# EAGLE library part MC145406D (library NXP_By_element14_Batch_1)
EIA-232-D/V.28 driver/receiver
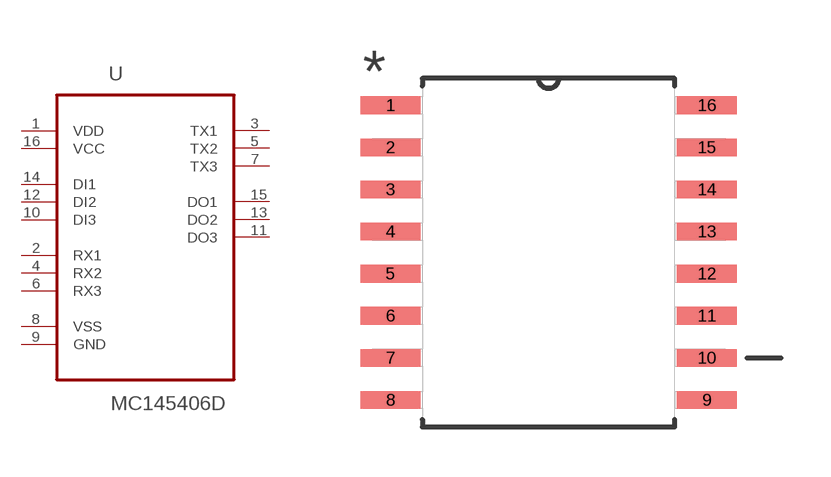
[diagram p376: symbol with the pads of SOIC127P1032X265-16N; footprint SOIC127P1032X265-16N]

Designator prefix U

## MC145406D (MPN: MC145406D; OC_FARNELL: 1211743; OC_NEWARK: -; PACKAGE: SOIC-16; SUPPLIER: NXP)  [SOIC127P1032X265-16N]
1  VDD  pwr
2  RX1  in
3  TX1  out
4  RX2  in
5  TX2  out
6  RX3  in
7  TX3  out
8  VSS  pwr
9  GND  pas
10  DI3  in
11  DO3  out
12  DI2  in
13  DO2  out
14  DI1  in
15  DO1  out
16  VCC  pwr

## Footprint SOIC127P1032X265-16N (pad centres in mm)
smd 1.803 x 0.533: 1 -4.775,4.445; 2 -4.775,3.175; 3 -4.775,1.905; 4 -4.775,0.635; 5 -4.775,-0.635; 6 -4.775,-1.905; 7 -4.775,-3.175; 8 -4.775,-4.445; 9 4.775,-4.445; 10 4.775,-3.175; 11 4.775,-1.905; 12 4.775,-0.635; 13 4.775,0.635; 14 4.775,1.905; 15 4.775,3.175; 16 4.775,4.445